# Altium schematic symbol library SRP6540-5R6M.SchLib: 1 symbol
Pins are listed as number, name and electrical type; pins without a type are passive.

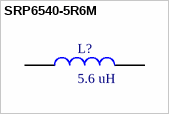
[diagram p0: symbol SRP6540-5R6M]

## SRP6540-5R6M
designator L?, comment 5.6 uH
footprint 470
pins: 1, 2